# EAGLE library part TPS61240? (library XLibrary)
TPS6124x 3.5-MHz High Efficiency Step-Up Converter Datasheet <http://www.ti.com/lit/ds/symlink/tps61240.pdf>
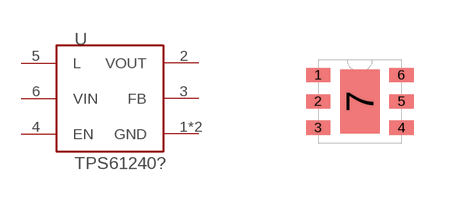
[diagram p0: symbol with the pads of SON65P200X200X80-7N; footprint SON65P200X200X80-7N]

Designator prefix -

## TPS61240DRVR  [SON65P200X200X80-7N]
1  GND  pwr
2  VOUT  out
3  FB  in
4  EN  in
5  L  in
6  VIN  pwr
7  GND  pwr

## Footprint SON65P200X200X80-7N (pad centres in mm)
Footprint from the TI Farnell library. Package WSON-6 DRV (DRV0006A)
smd 0.61 x 0.356: 1 -1.041,0.66; 2 -1.041,0; 3 -1.041,-0.66; 4 1.041,-0.66; 5 1.041,0; 6 1.041,0.66
smd 0.991 x 1.6: 7 0,0